# EAGLE library part MCP14700 (library Microchip)
Dual Input Synchronous MOSFET Driver
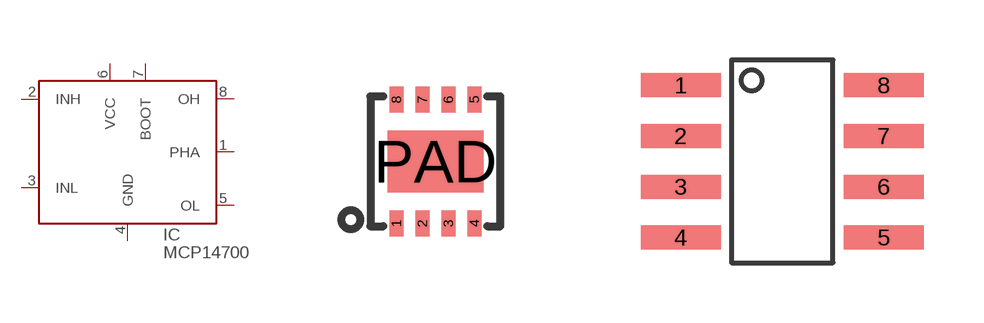
[diagram p35: symbol with the pads of DFN8-MF; footprints DFN8-MF, SOIC8-SN]

Designator prefix IC

## MCP14700MF  [DFN8-MF]
1  PHA
2  INH
3  INL
4  GND
5  OL
6  VCC
7  BOOT
8  OH

## MCP14700SN  [SOIC8-SN]
Pads as for DFN8-MF

## Footprint DFN8-MF (pad centres in mm)
8-Lead Plastic Dual Flat, No Lead Package (MF), 3x3x0.9mm Body (DFN)
smd 0.35 x 0.65: 1 -0.975,-1.55; 2 -0.325,-1.55; 3 0.325,-1.55; 4 0.975,-1.55; 5 0.975,1.55; 6 0.325,1.55; 7 -0.325,1.55; 8 -0.975,1.55
smd 2.4 x 1.55: PAD 0,0

## Footprint SOIC8-SN (pad centres in mm)
8-Lead Plastic Small Outline (SN) - Narrow, 3.90 mm body (SOIC)
smd 2 x 0.6: 1 -2.54,1.905; 2 -2.54,0.635; 3 -2.54,-0.635; 4 -2.54,-1.905; 5 2.54,-1.905; 6 2.54,-0.635; 7 2.54,0.635; 8 2.54,1.905